# Altium footprint library led.PCBLIB: 116 footprints (part 6 of 8)
Each footprint in its own frame and in the unit in brackets; x right, y up, seen from the top. Pads: shape width x height; smd on the part's side, far side on the other; paste and mask are expansions set on the pad; w line width, h text height; cw(c..) or ccw(c..) is an arc to the next point about the centre after c.
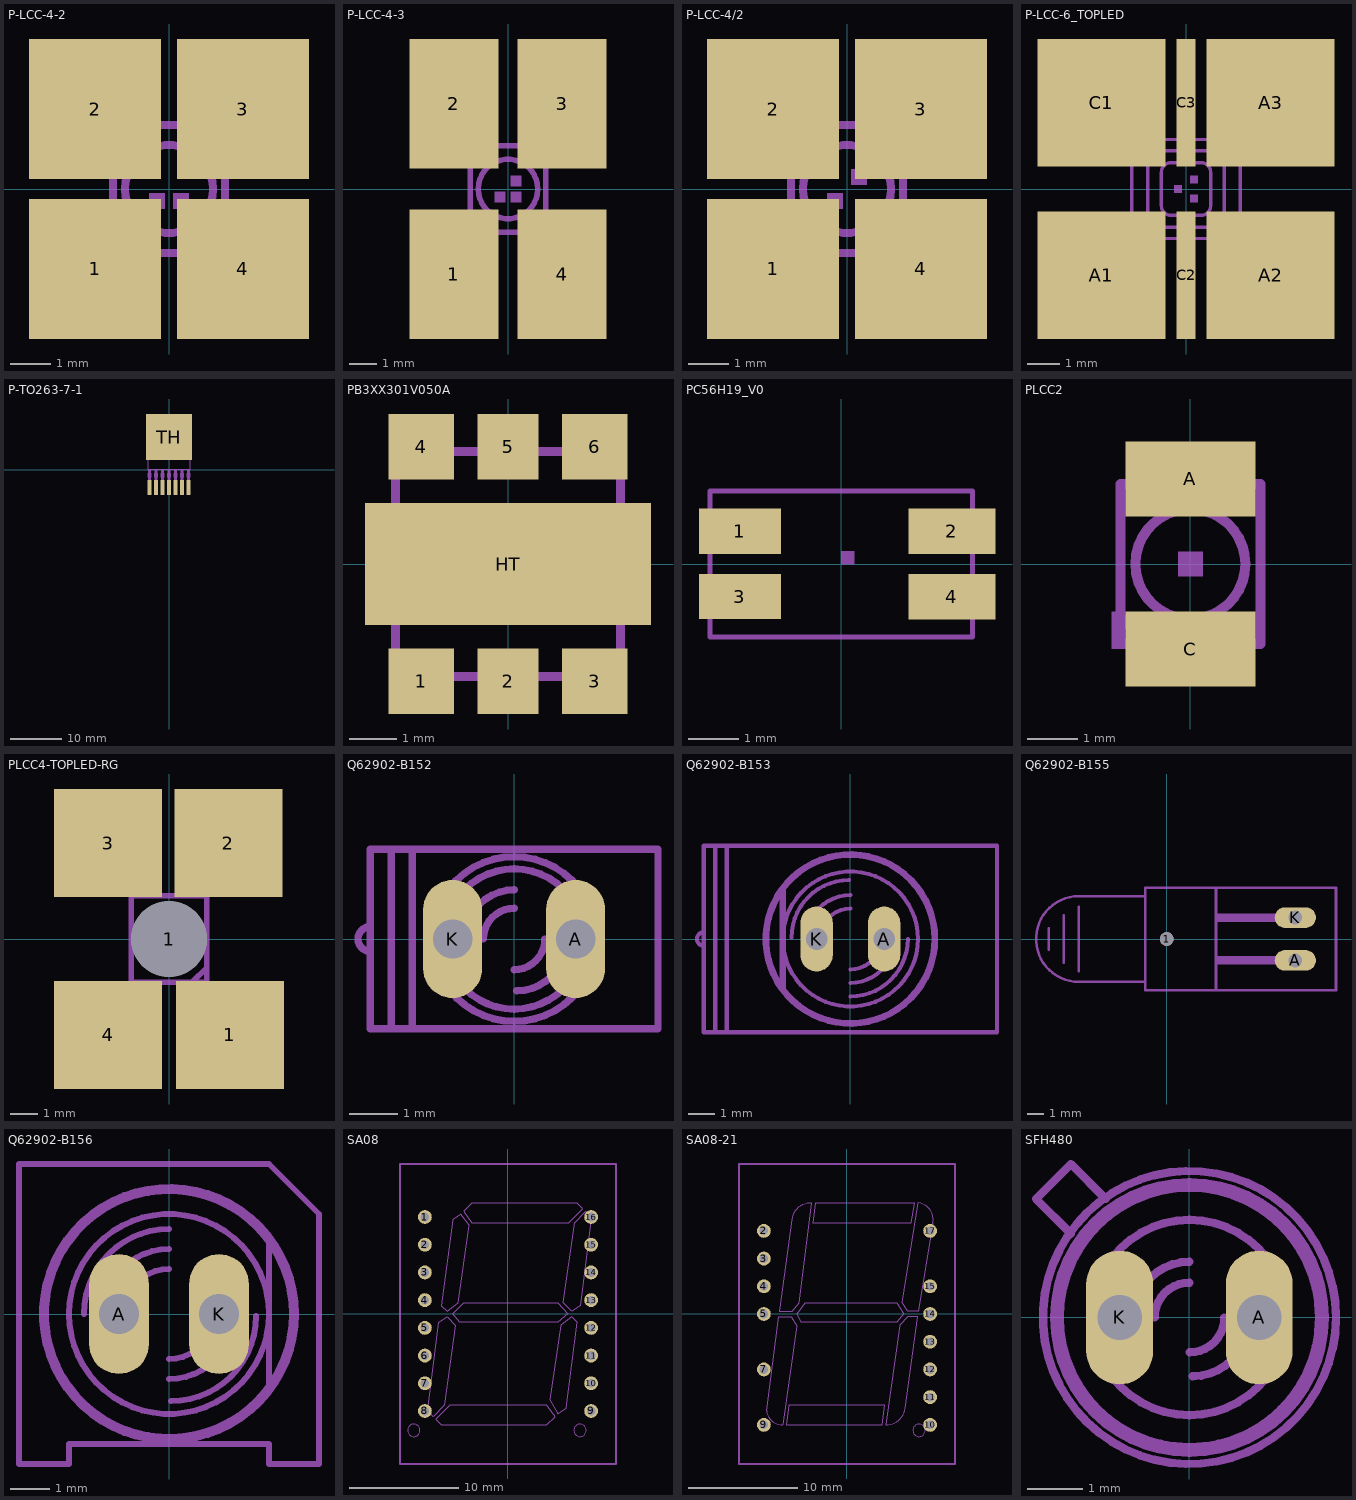
[diagram p5: the footprints below, top view; thin cyan lines are the x and y axes]

## P-LCC-4-2 [mm]
pads (4):
  rect 3.3x3.5 smd paste-1.75 mask-1.75: 1(-1.85,-2) 2(-1.85,2) 3(1.85,2) 4(1.85,-2)
Top Paste:
  rectangle: -1.1,-1.8 -0.4,-0.8
  rectangle: 0.4,-1.8 1.1,-0.8
  rectangle: 0.4,0.8 1.1,1.8
  rectangle: -1.1,0.8 -0.4,1.8
Top Solder:
  rectangle: -1.15,0.75 -0.35,1.85
  rectangle: 0.35,0.75 1.15,1.85
  rectangle: 0.35,-1.85 1.15,-0.75
  rectangle: -1.15,-1.85 -0.35,-0.75
Mechanical 2:
  rectangle: 0.1,-0.5 0.5,-0.1
  rectangle: -0.5,-0.5 -0.1,-0.1
Mechanical 18:
  circle w0.203: c0,0 r1.1
  lines w0.102: -1,-1.6 -1,-1.8 -0.5,-1.8 -0.5,-1.65 ; -1,1.6 -1,1.8 -0.5,1.8 -0.5,1.65 ; 0.5,-1.65 0.5,-1.8 1,-1.8 1,-1.6 ; 0.5,1.65 0.5,1.8 1.1,1.8 1.1,1.6
  lines w0.203: -1.4,-1.05 -1.4,-1.6 -1,-1.6 -0.85,-1.6 ; -1.4,-1.05 -0.85,-1.6 ; -1.4,-1.05 -1.4,1.6 -1,1.6 1.1,1.6 1.4,1.6 1.4,-1.6 1,-1.6 -0.85,-1.6

## P-LCC-4-3 [mm]
pads (4):
  rect 3.3x4.8 smd paste-2.4 mask-2.4: 1(-2,-3.15) 2(-2,3.15) 3(2,3.15) 4(2,-3.15)
Top Paste:
  rectangle: -1.1,-1.8 -0.4,-0.8
  rectangle: 0.4,-1.8 1.1,-0.8
  rectangle: 0.4,0.8 1.1,1.8
  rectangle: -1.1,0.8 -0.4,1.8
Top Solder:
  rectangle: -1.15,0.75 -0.35,1.85
  rectangle: 0.35,0.75 1.15,1.85
  rectangle: 0.35,-1.85 1.15,-0.75
  rectangle: -1.15,-1.85 -0.35,-0.75
Mechanical 2:
  rectangle: 0.1,0.1 0.5,0.5
  rectangle: 0.1,-0.5 0.5,-0.1
  rectangle: -0.5,-0.5 -0.1,-0.1
Mechanical 18:
  circle w0.203: c0,0 r1.1
  lines w0.102: -1,-1.6 -1,-1.8 -0.5,-1.8 -0.5,-1.65 ; -1,1.6 -1,1.8 -0.5,1.8 -0.5,1.65 ; 0.5,-1.65 0.5,-1.8 1,-1.8 1,-1.6 ; 0.5,1.65 0.5,1.8 1.1,1.8 1.1,1.6
  lines w0.203: -1.4,-1.05 -1.4,-1.6 -1,-1.6 -0.85,-1.6 ; -1.4,-1.05 -0.85,-1.6 ; -1.4,-1.05 -1.4,1.6 -1,1.6 1.1,1.6 1.4,1.6 1.4,-1.6 1,-1.6 -0.85,-1.6

## P-LCC-4/2 [mm]
pads (4):
  rect 3.3x3.5 smd paste-1.75 mask-1.75: 1(-1.85,-2) 2(-1.85,2) 3(1.85,2) 4(1.85,-2)
Top Paste:
  rectangle: -1.1,-1.8 -0.4,-0.8
  rectangle: 0.4,-1.8 1.1,-0.8
  rectangle: 0.4,0.8 1.1,1.8
  rectangle: -1.1,0.8 -0.4,1.8
Top Solder:
  rectangle: -1.15,0.75 -0.35,1.85
  rectangle: 0.35,0.75 1.15,1.85
  rectangle: 0.35,-1.85 1.15,-0.75
  rectangle: -1.15,-1.85 -0.35,-0.75
Mechanical 2:
  rectangle: 0.1,0.1 0.5,0.5
  rectangle: -0.5,-0.5 -0.1,-0.1
Mechanical 18:
  circle w0.203: c0,0 r1.1
  lines w0.102: -1,-1.6 -1,-1.8 -0.5,-1.8 -0.5,-1.65 ; -1,1.6 -1,1.8 -0.5,1.8 -0.5,1.65 ; 0.5,-1.65 0.5,-1.8 1,-1.8 1,-1.6 ; 0.5,1.65 0.5,1.8 1.1,1.8 1.1,1.6
  lines w0.203: -1.4,-1.05 -1.4,-1.6 -1,-1.6 -0.85,-1.6 ; -1.4,-1.05 -0.85,-1.6 ; -1.4,-1.05 -1.4,1.6 -1,1.6 1.1,1.6 1.4,1.6 1.4,-1.6 1,-1.6 -0.85,-1.6

## P-LCC-6_TOPLED [mm]
pads (6):
  rect 4x4 smd paste-2 mask-2: A1(-2.65,-2.7) A2(2.65,-2.7) A3(2.65,2.7) C1(-2.65,2.7)
  rect 0.6x4 smd paste-2 mask-2: C2(0,-2.7) C3(0,2.7)
Top Paste:
  rectangle: 0.7,-2.275 1.4,-0.75
  rectangle: -0.25,-2.275 0.25,-0.75
  rectangle: -1.4,-2.275 -0.7,-0.75
  rectangle: 0.7,0.75 1.4,2.275
  rectangle: -0.25,0.75 0.25,2.275
  rectangle: -1.4,0.75 -0.7,2.275
Top Solder:
  circle w0: c-4,-4 r0.201
  rectangle: 0.6,-2.35 1.45,-0.65
  rectangle: -0.35,-2.35 0.35,-0.65
  rectangle: -1.45,-2.35 -0.6,-0.65
  rectangle: -1.45,0.675 -0.6,2.375
  rectangle: -0.35,0.65 0.35,2.35
  rectangle: 0.6,0.65 1.45,2.35
Mechanical 2:
  rectangle: -0.375,-0.125 -0.125,0.125
  rectangle: 0.125,0.175 0.375,0.425
  rectangle: 0.125,-0.425 0.375,-0.175
  lines w0.102: -1.7,1.55 -1.7,-1.1 ; -1.475,-1.55 -1.7,-1.55 -1.7,-1.1 ; -1.45,-1.35 -1.7,-1.1 ; -0.775,-0.525 -0.775,0.525 ; 0.775,-0.525 0.775,0.525 ; 1.7,-1.55 1.7,1.55
Mechanical 18:
  rectangle: -1.4,1.525 -0.7,1.8
  rectangle: -0.25,1.55 0.25,1.8
  rectangle: 0.7,1.575 1.4,1.8
  rectangle: -1.4,-1.8 -0.7,-1.575
  rectangle: -0.25,-1.8 0.25,-1.575
  rectangle: 0.7,-1.8 1.4,-1.575
  lines w0.102: -1.7,-1.55 -1.25,-1.55 ; -1.7,-1.1 -1.25,-1.55 ; -1.7,1.55 1.7,1.55 ; -0.775,-0.525 ccw(c-0.475,-0.525) -0.475,-0.825 0.475,-0.825 ccw(c0.475,-0.525) 0.775,-0.525 ; -0.775,0.525 cw(c-0.475,0.525) -0.475,0.825 0.475,0.825 cw(c0.475,0.525) 0.775,0.525 ; 1.7,-1.55 -1.25,-1.55 ; -1.2,-0.8 ccw(c-0.8,-0.8) -0.8,-1.2 0.8,-1.2 ccw(c0.8,-0.8) 1.2,-0.8 1.2,0.8 ccw(c0.8,0.8) 0.8,1.2 -0.8,1.2 ccw(c-0.8,0.8) -1.2,0.8 -1.2,-0.8

## P-TO263-7-1 [mm]
pads (8):
  rect 0.8x3 smd: 1(-3.81,-3.475) 2(-2.54,-3.475) 3(-1.27,-3.475) 4(0,-3.475) 5(1.27,-3.475) 6(2.54,-3.475) 7(3.81,-3.475)
  rect 9x9 smd: TH(0,6.35)
Mechanical 2:
  rectangle: -4.11,-1.775 -3.51,0.05
  rectangle: -4.21,-1.55 -3.41,-0.625
  rectangle: -2.84,-1.775 -2.24,0.05
  rectangle: -2.94,-1.55 -2.14,-0.625
  rectangle: -1.57,-1.775 -0.97,0.05
  rectangle: -1.67,-1.55 -0.87,-0.625
  rectangle: -0.3,-1.775 0.3,0.05
  rectangle: -0.4,-1.55 0.4,-0.625
  rectangle: 0.97,-1.775 1.57,0.05
  rectangle: 0.87,-1.55 1.67,-0.625
  rectangle: 2.24,-1.775 2.84,0.05
  rectangle: 2.14,-1.55 2.94,-0.625
  rectangle: 3.51,-1.775 4.11,0.05
  rectangle: 3.41,-1.55 4.21,-0.625
  lines w0.203: -4.15,1.53 -4.15,0.1 4.15,0.1 4.15,1.53
Mechanical 18:
  rectangle: -4.11,-4.75 -3.51,-1.775
  rectangle: -2.84,-4.75 -2.24,-1.775
  rectangle: -1.57,-4.75 -0.97,-1.775
  rectangle: -0.3,-4.75 0.3,-1.775
  rectangle: 0.97,-4.75 1.57,-1.775
  rectangle: 2.24,-4.75 2.84,-1.775
  rectangle: 3.51,-4.75 4.11,-1.775
  lines w0.203: -4.15,0.1 -4.15,9.15 ; 4.15,0.1 4.15,9.15 ; -4.15,9.15 4.15,9.15 ; -4.15,9.15 -4.15,9.825 cw(c0,-18.73) 4.15,9.825 4.15,9.15

## PB3XX301V050A [mil]
pads (7):
  rect 55.12x55.12 smd: 1(-72.83,-98.43) 3(72.83,-98.43) 4(-72.83,98.43) 6(72.83,98.43)
  rect 51.18x55.12 smd: 2(0,-98.43) 5(0,98.43)
  rect 240.16x102.36 smd: HT(0,0)
Mechanical 18:
  circle w7.87: c-69.29,-27.56 r8.86
  lines w7.87: -94.49,-94.49 94.49,-94.49 94.49,94.49 -94.49,94.49 -94.49,-94.49

## PC56H19_V0 [mm]
pads (4):
  rect 1.63x0.9 smd mask-0.815: 1(-2.01,0.65) 3(-2.01,-0.645)
  rect 1.73x0.9 smd mask-0.865: 2(2.195,0.65) 4(2.195,-0.65)
Top Solder:
  rectangle: -2.86,-1.125 -1.165,-0.165
  rectangle: -2.86,0.175 -1.165,1.125
  rectangle: 1.3,0.175 3.09,1.125
  rectangle: 1.3,-1.125 3.09,-0.175
Mechanical 2:
  region: 0,0 0.254,0 0.254,0.254 0,0.254
  lines w0.1: -2.6,-1.45 2.6,-1.45 2.6,-1.3 ; -2.6,1.3 -2.6,1.45 2.6,1.45 2.6,1.3
Mechanical 16:
  region: 0,0 0.254,0 0.254,0.254 0,0.254
  region: 0,0 0.254,0 0.254,0.254 0,0.254
Mechanical 18:
  region: 0,0 0.254,0 0.254,0.254 0,0.254
  lines w0.1: -2.6,-1.45 -2.6,1.45 2.6,1.45 2.6,-1.45 -2.6,-1.45

## PLCC2 [mil]
pads (2):
  rect 102.36x59.06 smd paste-51.18 mask-51.18: A(0,66.93) C(0,-66.93)
Top Paste:
  rectangle: -51.18,-96.46 51.18,-37.4
  rectangle: -51.18,37.4 51.18,96.46
Top Solder:
  rectangle: -55.12,33.46 55.12,100.39
  rectangle: -55.12,-100.39 55.12,-33.46
Mechanical 2:
  rectangle: -9.84,-9.84 9.84,9.84
  rectangle: -62.01,-66.93 -53.15,-37.4
Mechanical 18:
  circle w8: c0,0 r43.31
  lines w4: -43.31,-62.99 -43.31,-70.87 43.31,-70.87 43.31,-62.99 ; -43.31,62.99 -43.31,70.87 43.31,70.87 43.31,62.99
  lines w8: -55.12,-41.34 -55.12,-62.99 -43.31,-62.99 -33.46,-62.99 ; -55.12,-41.34 -33.46,-62.99 ; -55.12,-41.34 -55.12,62.99 -43.31,62.99 43.31,62.99 55.12,62.99 55.12,-62.99 43.31,-62.99 -33.46,-62.99

## PLCC4-TOPLED-RG [mm]
pads (5):
  round 2.8 hole 2.8: 1(0,0)
  rect 4x4 smd paste-2 mask-2: 1(2.25,-3.55) 2(2.2,3.55) 3(-2.25,3.55) 4(-2.25,-3.55)
Top Paste:
  rectangle: -1.25,1.55 -0.25,2.95
  rectangle: 0.2,1.55 1.2,2.95
  rectangle: 0.25,-2.95 1.25,-1.55
  rectangle: -1.25,-2.95 -0.25,-1.55
Top Solder:
  rectangle: -1.35,1.45 -0.15,3.05
  rectangle: 0.1,1.45 1.3,3.05
  rectangle: 0.15,-3.05 1.35,-1.45
  rectangle: -1.35,-3.05 -0.15,-1.45
Mechanical 2:
  rectangle: -0.5,0.1 -0.1,0.5
  rectangle: 0.1,-0.5 0.5,-0.1
  rectangle: -0.5,-0.5 -0.1,-0.1
Mechanical 18:
  lines w0.102: -1,-1.6 -1,-2.65 -0.5,-2.65 -0.5,-1.65 ; -1,1.6 -1,2.65 -0.5,2.65 -0.5,1.65 ; 0.5,-1.65 0.5,-2.65 1,-2.65 1,-1.6 ; 0.5,1.65 0.5,2.65 1.1,2.65 1.1,1.6
  lines w0.203: 0.85,-1.6 -1,-1.6 -1.4,-1.6 -1.4,1.6 -1,1.6 1.1,1.6 1.4,1.6 1.4,-1.05 ; 0.85,-1.6 1,-1.6 1.4,-1.6 1.4,-1.05 ; 0.85,-1.6 1.4,-1.05

## Q62902-B152 [mil]
pads (2):
  oval 48x96 hole 32: A(50,0) K(-50,0)
Mechanical 2:
  lines w6: -57.55,34.31 cw(c0,0) 0,67 cw(c0,0) 57.77,33.93 ; -57.37,-34.62 ccw(c-0.01,0) 0,-67 ccw(c0.01,0) 57.37,-34.62 ; -45.22,34.7 cw(c0,0) 0,57 cw(c0,0) 45.18,34.75 ; -44.69,-35.38 ccw(c0,0) 0,-57 ccw(c0,0) 44.51,-35.61 ; -25,0 cw(c0,0) 0,25 ; -117,-10 -117,-73 -100,-73 ; -117,-10 -117,10 ; -117,-10 cw(c-117,0) -117,10 ; -117,10 -117,73 -100,73 ; -100,-73 -83,-73 ; -100,-73 -100,73 ; -100,73 -83,73 ; -83,-73 117,-73 117,73 -83,73 ; -83,-73 -83,73
Mechanical 18:
  lines w6: -57.09,-35.06 cw(c0,0.01) -67,0 cw(c-0.01,0) -56.88,35.41 ; -45.1,34.85 ccw(c-0.01,0) -57,0 ccw(c0,0) -44.51,-35.61 ; -40,0 cw(c0,0) 0,40 ; 0,-25 ccw(c0,0) 25,0 ; 2.12,-42.12 ccw(c2.12,-2.12) 42.12,-2.12 ; 44.41,-35.72 ccw(c0,0.01) 57,0 ccw(c0,0) 44.89,35.13 ; 56.93,-35.33 ccw(c0.01,-0.01) 67,0 ccw(c-0.01,0) 57.17,34.94

## Q62902-B153 [mil]
pads (2):
  oval 48x96 hole 32: A(50,0) K(-50,0)
Mechanical 2:
  circle w6: c0,0 r100
  circle w10: c0,0 r125
  lines w6: -217,-10 -217,-138 -200,-138 ; -217,-10 -217,10 ; -217,-10 cw(c-217,0) -217,10 ; -217,10 -217,138 -200,138 ; -200,-138 -183,-138 ; -200,-138 -200,138 ; -200,138 -183,138 ; -183,-138 217,-138 217,138 -183,138 ; -183,-138 -183,138
  lines w10: -100,-75 -100,75
Mechanical 18:
  lines w6: -87.12,2.12 cw(c-2.13,2.13) -2.12,87.12 ; -65,0 cw(c0,0) 0,65 ; -45,0 cw(c0,0) 0,45 ; 0,-85 ccw(c0,0) 85,0 ; 0,-65 ccw(c0,0) 65,0 ; 0,-45 ccw(c0,0) 45,0

## Q62902-B155 [mil]
pads (3):
  round 32 hole 32: 1(0,0)
  oval 96x48 hole 32: A(300,-50) K(300,50)
Mechanical 2:
  rectangle: 115,40 265,60
  rectangle: 115,-60 265,-40
  lines w6: -275,-25 -275,25 ; -240,-55 -240,55 ; -205,-75 -205,75 ; -50,-100 -50,-120 115,-120 ; -50,-100 -205,-100 cw(c-205,0) -205,100 -50,100 ; -50,-100 -50,100 ; -50,100 -50,120 115,120 ; 115,-120 115,120 ; 115,-120 395,-120 395,120 115,120

## Q62902-B156 [mil]
pads (2):
  oval 60x120 hole 40: A(-50,0) K(50,0)
Mechanical 2:
  circle w6: c0,0 r100
  circle w10: c0,0 r125
  lines w6: 100,-75 100,75 ; -150,-150 -150,150 100,150 150,100 150,-150 100,-150 100,-130 -100,-130 -100,-150 -150,-150
Mechanical 18:
  lines w6: -85,0 cw(c0,0) 0,85 ; -65,0 cw(c0,0) 0,65 ; -45,0 cw(c0,0) 0,45 ; 0,-65 ccw(c0,0) 65,0 ; 0,-45 ccw(c0,0) 45,0 ; 2.12,-87.12 ccw(c2.12,-2.12) 87.12,-2.12

## SA08 [mil]
pads (16):
  round 50 hole 31.5: 1(-300,350) 2(-300,250) 3(-300,150) 4(-300,50) 5(-300,-50) 6(-300,-150) 7(-300,-250) 8(-300,-350) 9(300,-350) 10(300,-250) 11(300,-150) 12(300,-50) 13(300,50) 14(300,150) 15(300,250) 16(300,350)
Mechanical 2:
  circle w3.94: c-340,-420 r22.36
  circle w3.94: c260,-420 r22.36
  lines w3.94: -290,-350 -270,-370 -230,-330 -190,-40 -220,-10 -250,-30 -290,-350 ; -260,-380 -240,-400 140,-400 170,-370 140,-330 -210,-330 -260,-380 ; -240,30 -200,340 -170,360 -140,320 -180,40 -220,10 -240,30 ; -200,0 -160,40 180,40 215,0 180,-30 -175,-30 -200,0 ; -160,370 -130,400 250,400 270,380 220,330 -130,330 -160,370 ; 150,-310 190,-40 230,-10 250,-30 210,-340 180,-360 150,-310 ; 200,40 230,10 260,30 300,350 280,370 240,330 200,40
  lines w8: -389.76,-541.34 389.76,-541.34 389.76,541.34 -389.76,541.34 -389.76,-541.34

## SA08-21 [mil]
pads (13):
  round 50 hole 31.5: 2(-300,300) 3(-300,200) 4(-300,100) 5(-300,0) 7(-300,-200) 9(-300,-400) 10(300,-400) 11(300,-300) 12(300,-200) 13(300,-100) 14(300,0) 15(300,100) 17(300,300)
Mechanical 2:
  circle w3.94: c260,-420 r22.36
  lines w3.94: -290,-350 -247,-10 -201,-10 -182,-42 -231,-399 cw(c-236,-345) -290,-350 ; -245,10 -200,340 cw(c-132,331.68) -127,400 -172,41 -197,10 -245,10 ; -220,-400 127,-400 137,-330 -210,-330 -220,-400 ; -180,0 -150,40 180,40 205,0 180,-30 -165,-30 -180,0 ; -123,330 -115,400 244,400 231,330 -123,330 ; 140,-400 ccw(c141.25,-330.63) 210,-340 256,-10 220,-10 190,-40 140,-400 ; 200,40 220,10 258,10 309,328 ccw(c251.18,341.92) 258,401 200,40
  lines w8: -389.76,-541.34 389.76,-541.34 389.76,541.34 -389.76,541.34 -389.76,-541.34

## SFH480 [mil]
pads (2):
  oval 48x96 hole 32: A(50,0) K(-50,0)
Mechanical 2:
  circle w6: c0,0 r105
  circle w10: c0,0 r95
  lines w6: -85,60 -110,85 -85,110 -60,85 ; -60.46,-35.27 ccw(c0,0) 0,-70 ccw(c0,0) 60.46,-35.27 ; -60.46,35.27 cw(c0,0) 0,70 cw(c0,0) 60.46,35.27
Mechanical 18:
  lines w6: -59.61,-36.69 cw(c0.01,0.01) -70,0 cw(c-0.01,0.01) -59.06,37.58 ; -40,0 cw(c0,0) 0,40 ; -25,0 cw(c0,0) 0,25 ; 0,-25 ccw(c0,0) 25,0 ; 2.12,-42.12 ccw(c2.12,-2.12) 42.12,-2.12 ; 59.06,-37.58 ccw(c0.01,-0.01) 70,0 ccw(c-0.01,-0.01) 59.61,36.69